# Altium schematic symbol library SWLiB.SchLib: 128 symbols
Pins are listed as number, name and electrical type; pins without a type are passive.

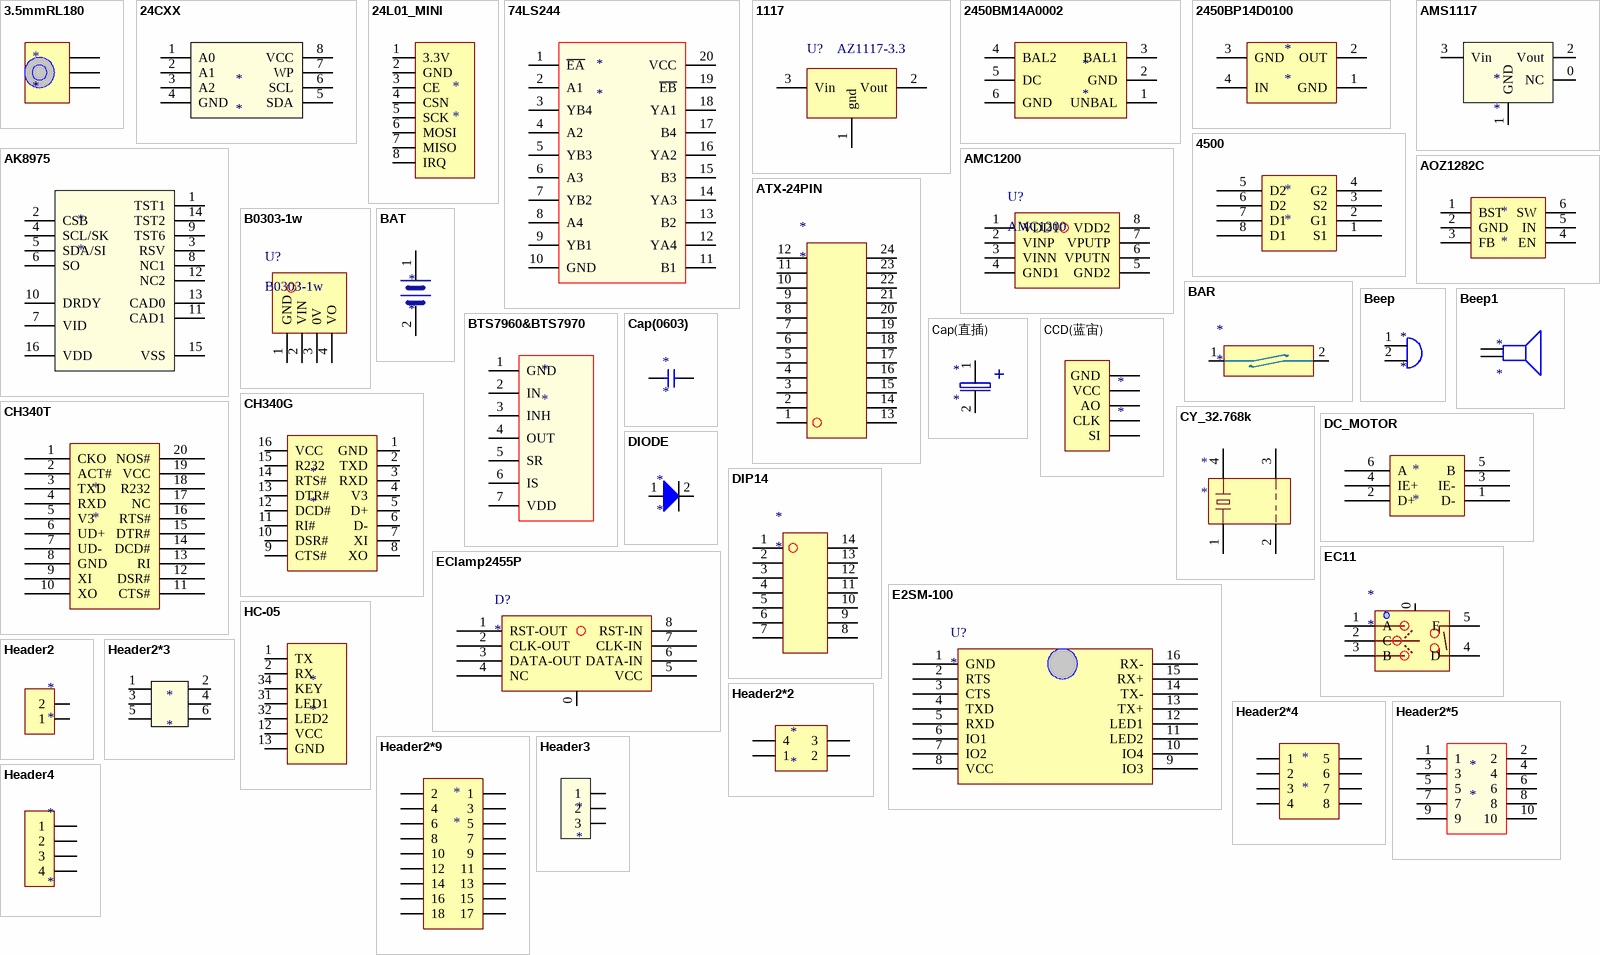
[diagram p0: symbols 3.5mmRL180 to Header4]

## 3.5mmRL180
designator *
footprint DHH3.5mm
pins: 2 IN16, 3 IN17, 4 IN18

## 24CXX
designator *
footprint SOP_8
pins: 1 A0, 2 A1, 3 A2, 4 GND, 5 SDA, 6 SCL, 7 WP, 8 VCC

## 24L01_MINI
designator *
footprint MINI_NRF24L01_ (1.27mm)
pins: 1 3.3V, 2 GND, 3 CE, 4 CSN, 5 SCK, 6 MOSI, 7 MISO, 8 IRQ

## 74LS244
designator *
footprint SOP20 (窄的)
pins: 1 ~{EA}, 2 A1, 3 YB4, 4 A2, 5 YB3, 6 A3, 7 YB2, 8 A4, 9 YB1, 10 GND, 11 B1, 12 YA4, 13 B2, 14 YA3, 15 B3, 16 YA2, 17 B4, 18 YA1, 19 ~{EB}, 20 VCC

## 1117
designator U?, comment AZ1117-3.3
footprint sot89l (SOT89, 3-Leads, Body 4.5x2.4 mm, Pitch 1.5mm, Lead Span 4.1mm, IPC)
footprint SOT223
pins: 1 gnd, 2 Vout, 3 Vin

## 2450BM14A0002
designator *
footprint 2450BM14A0002
pins: 1 UNBAL, 2 GND, 3 BAL1, 4 BAL2, 5 DC, 6 GND

## 2450BP14D0100
designator *
footprint 2450BP14D0100
pins: 1 GND, 2 OUT, 3 GND, 4 IN

## 4500
designator *
pins: 1 S1, 2 G1, 3 S2, 4 G2, 5 D2, 6 D2, 7 D1, 8 D1

## AK8975
designator *
footprint AK8975 (QFN, 16-Leads, Body 4.00x4.00mm, Pitch 0.65mm, Thermal Pad 2.25x2.25mm, IPC Medium Density)
pins: 1 TST1, 2 CSB, 3 RSV, 4 SCL/SK, 5 SDA/SI, 6 SO, 7 VID, 8 NC1, 9 TST6, 10 DRDY, 11 CAD1, 12 NC2, 13 CAD0, 14 TST2, 15 VSS, 16 VDD

## AMC1200
designator U?
footprint SOP_8
pins: 1 VDD1, 2 VINP, 3 VINN, 4 GND1, 5 GND2, 6 VPUTN, 7 VPUTP, 8 VDD2

## AMS1117
designator *
footprint SOT223
pins: 0 NC, 1 GND, 2 Vout, 3 Vin

## AOZ1282C
designator *
footprint SOT23-6L (3x1.6x1.1mm(长宽高))
pins: 1 BST, 2 GND, 3 FB, 4 EN, 5 IN, 6 SW

## ATX-24PIN
designator *
pins: 1, 2, 3, 4, 5, 6, 7, 8, 9, 10, 11, 12, 13, 14, 15, 16, 17, 18, 19, 20, 21, 22, 23, 24

## B0303-1w
designator U?
footprint B0303-0.5W
pins: 1 GND, 2 VIN, 3 0V, 4 VO

## BAR
designator *
footprint Model Name (Footprint not found)
pins: 1, 2

## BAT
designator *
footprint BATM
pins: 1, 2

## Beep
designator *
footprint MR5020
pins: 1, 2

## Beep1
designator *
footprint Beep1
pins: 1, 2

## BTS7960&BTS7970
designator *
footprint BTS7960
pins: 1 GND, 2 IN, 3 INH, 4 OUT, 5 SR, 6 IS, 7 VDD

## Cap(0603)
designator *
footprint 0603C
pins: 1, 2

## Cap(直插)
designator *
footprint CAP(大)
pins: 1, 2

## CCD(蓝宙)
designator *
footprint Header5-2.54mm
pins: 1 GND, 2 VCC, 3 AO, 4 CLK, 5 SI

## CH340G
designator *
footprint SOP16
pins: 1 GND, 2 TXD, 3 RXD, 4 V3, 5 D+, 6 D-, 7 XI, 8 XO, 9 CTS#, 10 DSR#, 11 RI#, 12 DCD#, 13 DTR#, 14 RTS#, 15 R232, 16 VCC

## CH340T
designator *
pins: 1 CKO, 2 ACT#, 3 TXD, 4 RXD, 5 V3, 6 UD+, 7 UD-, 8 GND, 9 XI, 10 XO, 11 CTS#, 12 DSR#, 13 RI, 14 DCD#, 15 DTR#, 16 RTS#, 17 NC, 18 R232, 19 VCC, 20 NOS#

## CY_32.768k
designator *
footprint MC-306
pins: 1, 2, 3, 4

## DC_MOTOR
designator *
pins: 1 D-, 2 D+, 3 IE-, 4 IE+, 5 B, 6 A

## DIODE
designator *
footprint Mini_melf
pins: 1, 2

## DIP14
designator *
footprint KF141R-2.54x7
pins: 1 IN3, 2 IN4, 3 IN5, 4 IN6, 5 IN7, 6 IN8, 7 IN9, 8 IN10, 9 IN11, 10 IN12, 11 IN13, 12 IN14, 13 IN13, 14 IN14

## E2SM-100
designator U?
pins: 1 GND, 2 RTS, 3 CTS, 4 TXD, 5 RXD, 6 IO1, 7 IO2, 8 VCC, 9 IO3, 10 IO4, 11 LED2, 12 LED1, 13 TX+, 14 TX-, 15 RX+, 16 RX-

## EC11
designator *
pins: 0, 1 A, 2 C, 3 B, 4 D, 5 E

## EClamp2455P
designator D?
footprint SLP2116P8 (QFN, 8-Leads, Body 1.8x2.2mm (max), Pitch 0.50mm, IPC Medium Density)
pins: 0 GND, 1 RST-OUT, 2 CLK-OUT, 3 DATA-OUT, 4 NC, 5 VCC, 6 DATA-IN, 7 CLK-IN, 8 RST-IN

## HC-05
designator *
footprint HC-05
pins: 1 TX, 2 RX, 12 VCC, 13 GND, 31 LED1, 32 LED2, 34 KEY

## Header2
designator *
footprint Header2 (2.54mm)
footprint T头母
footprint Header2_5.08mm
pins: 1, 2

## Header2*2
designator *
footprint Heaer2*2 (100mil)
pins: 1, 2, 3, 4

## Header2*3
designator *
footprint Heaer2*3
pins: 1, 2, 3, 4, 5, 6

## Header2*4
designator *
footprint Header 2*4 (2.54mm)
pins: 1, 2, 3, 4, 5, 6, 7, 8

## Header2*5
designator *
footprint Header2*5
pins: 1, 2, 3, 4, 5, 6, 7, 8, 9, 10

## Header2*9
designator *
footprint Header2*9 (2.54 ov7670,ov2460)
pins: 1, 2, 3, 4, 5, 6, 7, 8, 9, 10, 11, 12, 13, 14, 15, 16, 17, 18

## Header3
designator *
footprint Header3 (2.54mm)
pins: 1, 2, 3

## Header4
designator *
footprint Header4 (2.54mm)
pins: 1, 2, 3, 4

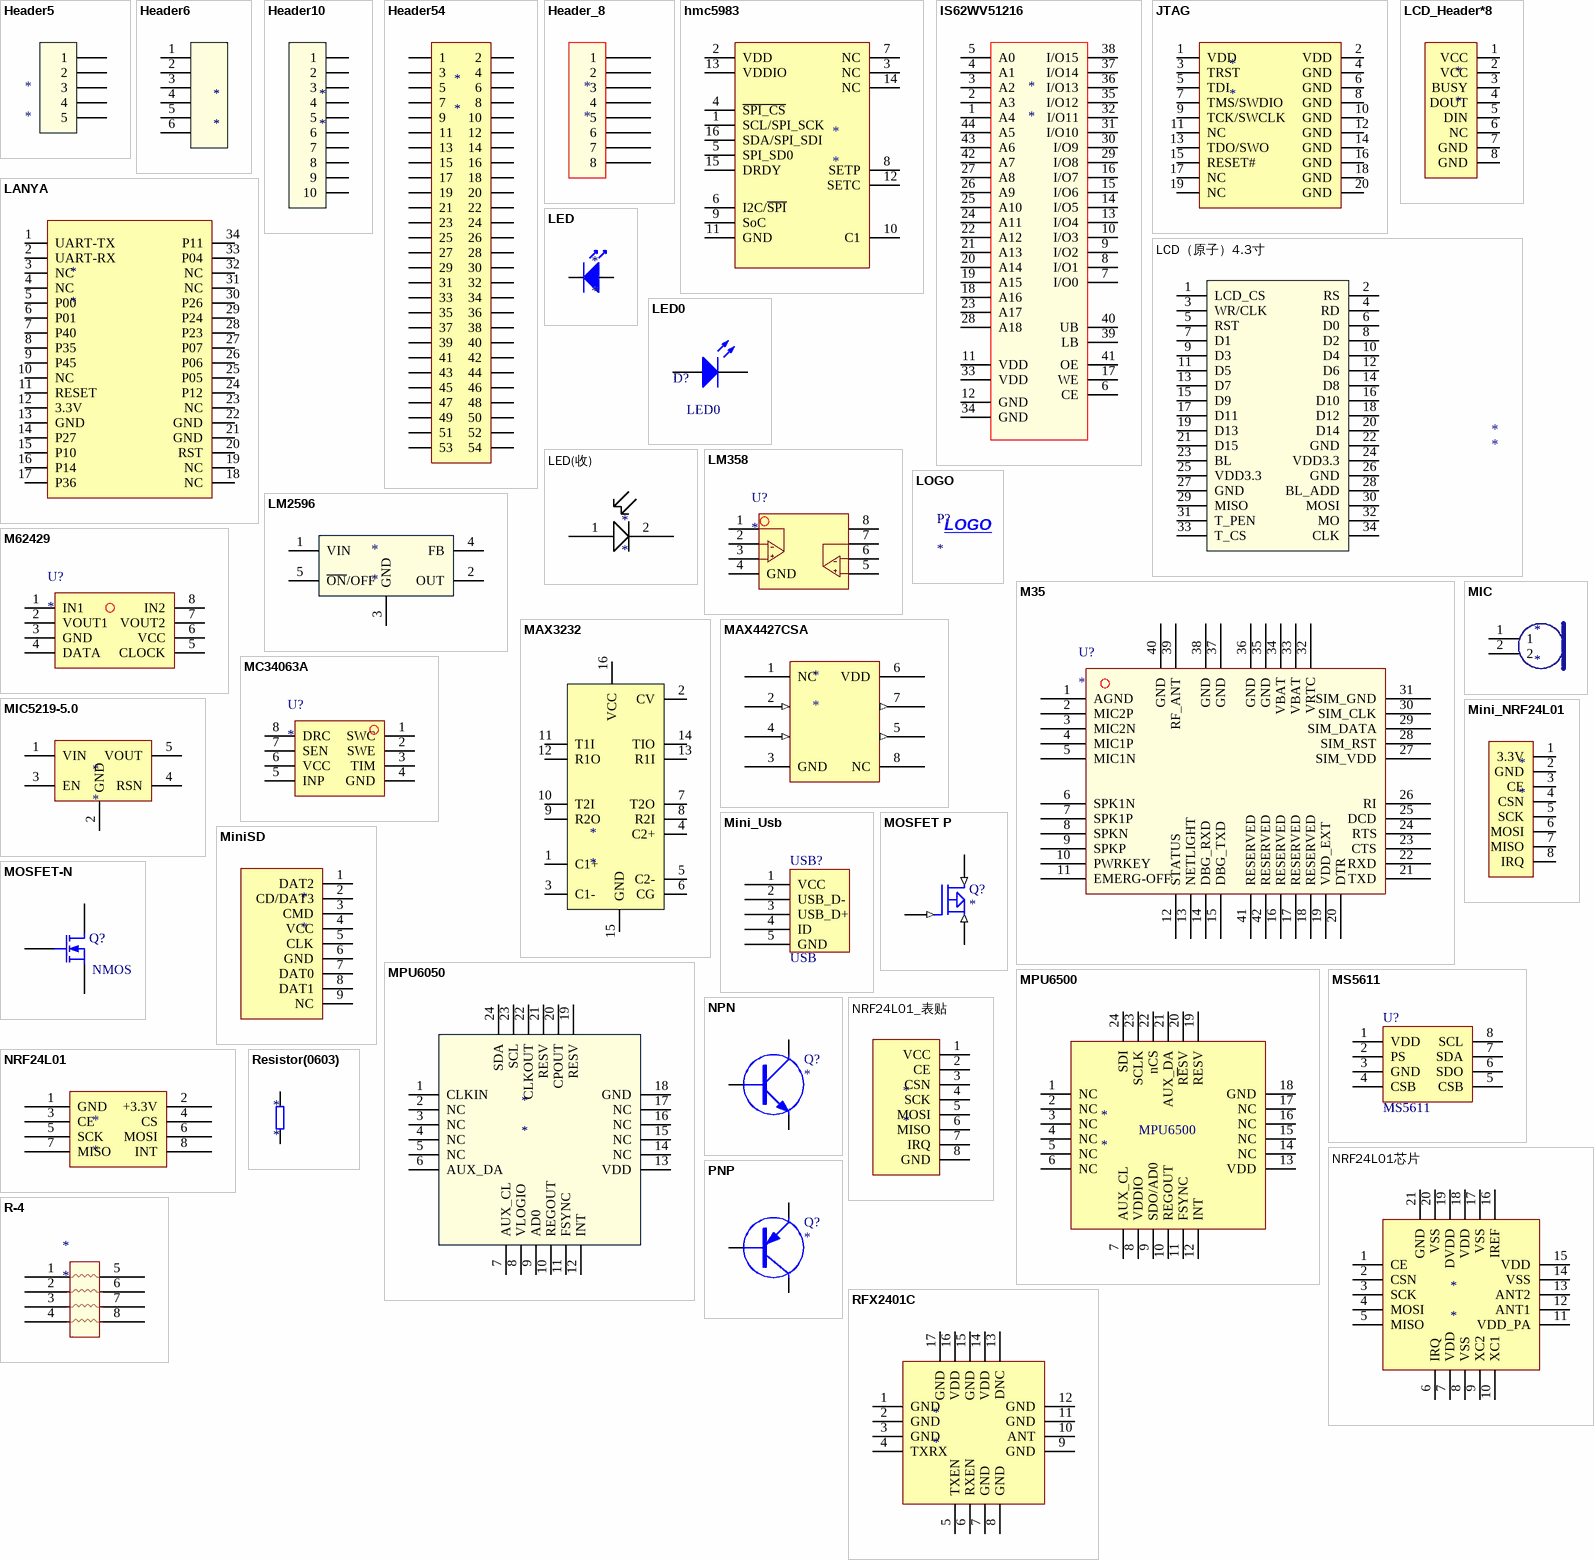
[diagram p1: symbols Header5 to RFX2401C]

## Header5
designator *
footprint Header5
pins: 1, 2, 3, 4, 5

## Header6
designator *
footprint Header 6 (2.0mm)
footprint Header6_2.54mm
pins: 1, 2, 3, 4, 5, 6

## Header10
designator *
footprint MX 1.25-SMD-10P_V (10脚，长：14.5mm，宽：4.2mm，高：3.4mm)
pins: 1, 2, 3, 4, 5, 6, 7, 8, 9, 10

## Header54
designator *
footprint Header54 (2.54mm)
pins: 1, 2, 3, 4, 5, 6, 7, 8, 9, 10, 11, 12, 13, 14, 15, 16, 17, 18, 19, 20, 21, 22, 23, 24, 25, 26, 27, 28, 29, 30, 31, 32, 33, 34, 35, 36, 37, 38, 39, 40, 41, 42, 43, 44, 45, 46, 47, 48, 49, 50, 51, 52, 53, 54

## Header_8
designator *
footprint Header8 (2.54mm)
pins: 1, 2, 3, 4, 5, 6, 7, 8

## hmc5983
designator *
footprint QFN_16
pins: 1 SCL/SPI_SCK, 2 VDD, 3 NC, 4 ~{SPI_CS}, 5 SPI_SD0, 6 I2C/~{SPI}, 7 NC, 8 SETP, 9 SoC, 10 C1, 11 GND, 12 SETC, 13 VDDIO, 14 NC, 15 DRDY, 16 SDA/SPI_SDI

## IS62WV51216
designator *
footprint TOSP44
pins: 1 A4, 2 A3, 3 A2, 4 A1, 5 A0, 6 CE, 7 I/O0, 8 I/O1, 9 I/O2, 10 I/O3, 11 VDD, 12 GND, 13 I/O4, 14 I/O5, 15 I/O6, 16 I/O7, 17 WE, 18 A16, 19 A15, 20 A14, 21 A13, 22 A12, 23 A17, 24 A11, 25 A10, 26 A9, 27 A8, 28 A18, 29 I/O8, 30 I/O9, 31 I/O10, 32 I/O11, 33 VDD, 34 GND, 35 I/O12, 36 I/O13, 37 I/O14, 38 I/O15, 39 LB, 40 UB, 41 OE, 42 A7, 43 A6, 44 A5

## JTAG
designator *
footprint Header20-2.54 (JATG)
pins: 1 VDD, 2 VDD, 3 TRST, 4 GND, 5 TDI, 6 GND, 7 TMS/SWDIO, 8 GND, 9 TCK/SWCLK, 10 GND, 11 NC, 12 GND, 13 TDO/SWO, 14 GND, 15 RESET#, 16 GND, 17 NC, 18 GND, 19 NC, 20 GND

## LANYA
designator *
pins: 1 UART-TX, 2 UART-RX, 3 NC, 4 NC, 5 P00, 6 P01, 7 P40, 8 P35, 9 P45, 10 NC, 11 RESET, 12 3.3V, 13 GND, 14 P27, 15 P10, 16 P14, 17 P36, 18 NC, 19 NC, 20 RST, 21 GND, 22 GND, 23 NC, 24 P12, 25 P05, 26 P06, 27 P07, 28 P23, 29 P24, 30 P26, 31 NC, 32 NC, 33 P04, 34 P11

## LCD_Header*8
designator *
footprint XH 2.54 8pin
pins: 1 VCC, 2 VCC, 3 BUSY, 4 DOUT, 5 DIN, 6 NC, 7 GND, 8 GND

## LCD（原子）4.3寸
designator *
footprint LCD_4.3 (原子液晶屏)
pins: 1 LCD_CS, 2 RS, 3 WR/CLK, 4 RD, 5 RST, 6 D0, 7 D1, 8 D2, 9 D3, 10 D4, 11 D5, 12 D6, 13 D7, 14 D8, 15 D9, 16 D10, 17 D11, 18 D12, 19 D13, 20 D14, 21 D15, 22 GND, 23 BL, 24 VDD3.3, 25 VDD3.3, 26 GND, 27 GND, 28 BL_ADD, 29 MISO, 30 MOSI, 31 T_PEN, 32 MO, 33 T_CS, 34 CLK

## LED
designator *
footprint 0603D
pins: 1, 2

## LED0
designator D?
Typical INFRARED GaAs LED; Published: 8-Jun-2000; LatestRevisionDate: 08-Jul-2005; LatestRevisionNote: Mech Layer 1 removed.; PackageReference: LED-0; Publisher: Altium Limited; PackageDescription: LED; 2 Leads
footprint 0603_LED
pins: 1 A, 2 K

## LED(收)
designator *
pins: 1, 2

## LM358
designator U?
footprint Model Name (Footprint not found)
pins: 1 out, 2 out, 3 out, 4 GND, 5 out, 6 out, 7 out, 8 VCC

## LM2596
designator *
footprint TO-265-5
pins: 1 VIN, 2 OUT, 3 GND, 4 FB, 5 ~{ON}/OFF

## LOGO
designator P?

## M35
designator U?
footprint M35-PCB
pins: 1 AGND, 2 MIC2P, 3 MIC2N, 4 MIC1P, 5 MIC1N, 6 SPK1N, 7 SPK1P, 8 SPKN, 9 SPKP, 10 PWRKEY, 11 EMERG-OFF, 12 STATUS, 13 NETLIGHT, 14 DBG_RXD, 15 DBG_TXD, 16 RESERVED, 17 RESERVED, 18 RESERVED, 19 VDD_EXT, 20 DTR, 21 TXD, 22 RXD, 23 CTS, 24 RTS, 25 DCD, 26 RI, 27 SIM_VDD, 28 SIM_RST, 29 SIM_DATA, 30 SIM_CLK, 31 SIM_GND, 32 VRTC, 33 VBAT, 34 VBAT, 35 GND, 36 GND, 37 GND, 38 GND, 39 RF_ANT, 40 GND, 41 RESERVED, 42 RESERVED

## M62429
designator U?
footprint SOP8 (Footprint not found)
pins: 1 IN1, 2 VOUT1, 3 GND, 4 DATA, 5 CLOCK, 6 VCC, 7 VOUT2, 8 IN2

## MAX3232
designator *
footprint SOP16
pins: 1 C1+, 2 CV, 3 C1-, 4 C2+, 5 C2-, 6 CG, 7 T2O, 8 R2I, 9 R2O, 10 T2I, 11 T1I, 12 R1O, 13 R1I, 14 TIO, 15 GND, 16 VCC

## MAX4427CSA
designator *
pins: 1 NC, 2 (in), 3 GND, 4 (in), 5 (out), 6 VDD, 7 (out), 8 NC

## MC34063A
designator U?
footprint Model Name (Footprint not found)
pins: 1 SWC, 2 SWE, 3 TIM, 4 GND, 5 INP, 6 VCC, 7 SEN, 8 DRC

## MIC
designator *
footprint MIC (9*7)
pins: 1, 2

## MIC5219-5.0
designator *
footprint sot23-5
pins: 1 VIN, 2 GND, 3 EN, 4 RSN, 5 VOUT

## Mini_NRF24L01
designator *
footprint mini_NRF2401 (1.27mm间距)
pins: 1 3.3V, 2 GND, 3 CE, 4 CSN, 5 SCK, 6 MOSI, 7 MISO, 8 IRQ

## Mini_Usb
designator USB?, comment USB
footprint USB_Micro
pins: 1 VCC, 2 USB_D-, 3 USB_D+, 4 ID, 5 GND

## MiniSD
designator *
footprint TF2
pins: 1 DAT2, 2 CD/DAT3, 3 CMD, 4 VCC, 5 CLK, 6 GND, 7 DAT0, 8 DAT1, 9 NC

## MOSFET P
designator Q?
pins: 1 G (in), 2 D (in), 3 S (in)

## MOSFET-N
designator Q?, comment NMOS
N-Channel MOSFET; Published: 8-Jun-2000; LatestRevisionDate: 17-Jul-2002; LatestRevisionNote: Re-released for DXP Platform.; PackageVersion: 1995/1996; PackageReference: E3; Publisher: Altium Limited
simulation model NMOS (MOSFET-N)
footprint SOT-23 (SOT-23; 3 Leads; Body 3.1 x 2.5 mm, inc. leads (LxW max))
pins: 1 G, 2 S, 3 D

## MPU6050
designator *
footprint MPU_6050 (QFN, 24-Leads, Body 4.00x4.00mm, Pitch 0.50mm, Thermal Pad 2.60x2.70mm, IPC Low Density)
pins: 1 CLKIN, 2 NC, 3 NC, 4 NC, 5 NC, 6 AUX_DA, 7 AUX_CL, 8 VLOGIO, 9 AD0, 10 REGOUT, 11 FSYNC, 12 INT, 13 VDD, 14 NC, 15 NC, 16 NC, 17 NC, 18 GND, 19 RESV, 20 CPOUT, 21 RESV, 22 CLKOUT, 23 SCL, 24 SDA

## MPU6500
designator *
footprint QFN_24
pins: 1 NC, 2 NC, 3 NC, 4 NC, 5 NC, 6 NC, 7 AUX_CL, 8 VDDIO, 9 SDO/AD0, 10 REGOUT, 11 FSYNC, 12 INT, 13 VDD, 14 NC, 15 NC, 16 NC, 17 NC, 18 GND, 19 RESV, 20 R~{E}SV, 21 AUX_DA, 22 nCS, 23 SCLK, 24 SDI

## MS5611
designator U?
footprint QFN_8
pins: 1 VDD, 2 PS, 3 GND, 4 CSB, 5 CSB, 6 SDO, 7 SDA, 8 SCL

## NPN
designator Q?
NPN Transistor
footprint SOT-23
pins: 1 E, 2 B, 3 C

## NRF24L01
designator *
footprint NRF24L01 (2.54mm)
pins: 1 GND, 2 +3.3V, 3 CE, 4 CS, 5 SCK, 6 MOSI, 7 MISO, 8 INT

## NRF24L01_表贴
designator *
footprint Nrf24l01 - duplicate (表贴)
pins: 1 VCC, 2 CE, 3 CSN, 4 SCK, 5 MOSI, 6 MISO, 7 IRQ, 8 GND

## NRF24L01芯片
designator *
footprint QFN20
pins: 1 CE, 2 CSN, 3 SCK, 4 MOSI, 5 MISO, 6 IRQ, 7 VDD, 8 VSS, 9 XC2, 10 XC1, 11 VDD_PA, 12 ANT1, 13 ANT2, 14 VSS, 15 VDD, 16 IREF, 17 VSS, 18 VDD, 19 DVDD, 20 VSS, 21 GND

## PNP
designator Q?
NPN Transistor
footprint SOT-23
pins: 1 E, 2 B, 3 C

## R-4
designator *
footprint 8P4R (0603)
pins: 1, 2, 3, 4, 5, 6, 7, 8

## Resistor(0603)
designator *
footprint 0603R
pins: 1, 2

## RFX2401C
designator *
footprint QFN_16
pins: 1 GND, 2 GND, 3 GND, 4 TXRX, 5 TXEN, 6 RXEN, 7 GND, 8 GND, 9 GND, 10 ANT, 11 GND, 12 GND, 13 DNC, 14 VDD, 15 GND, 16 VDD, 17 GND

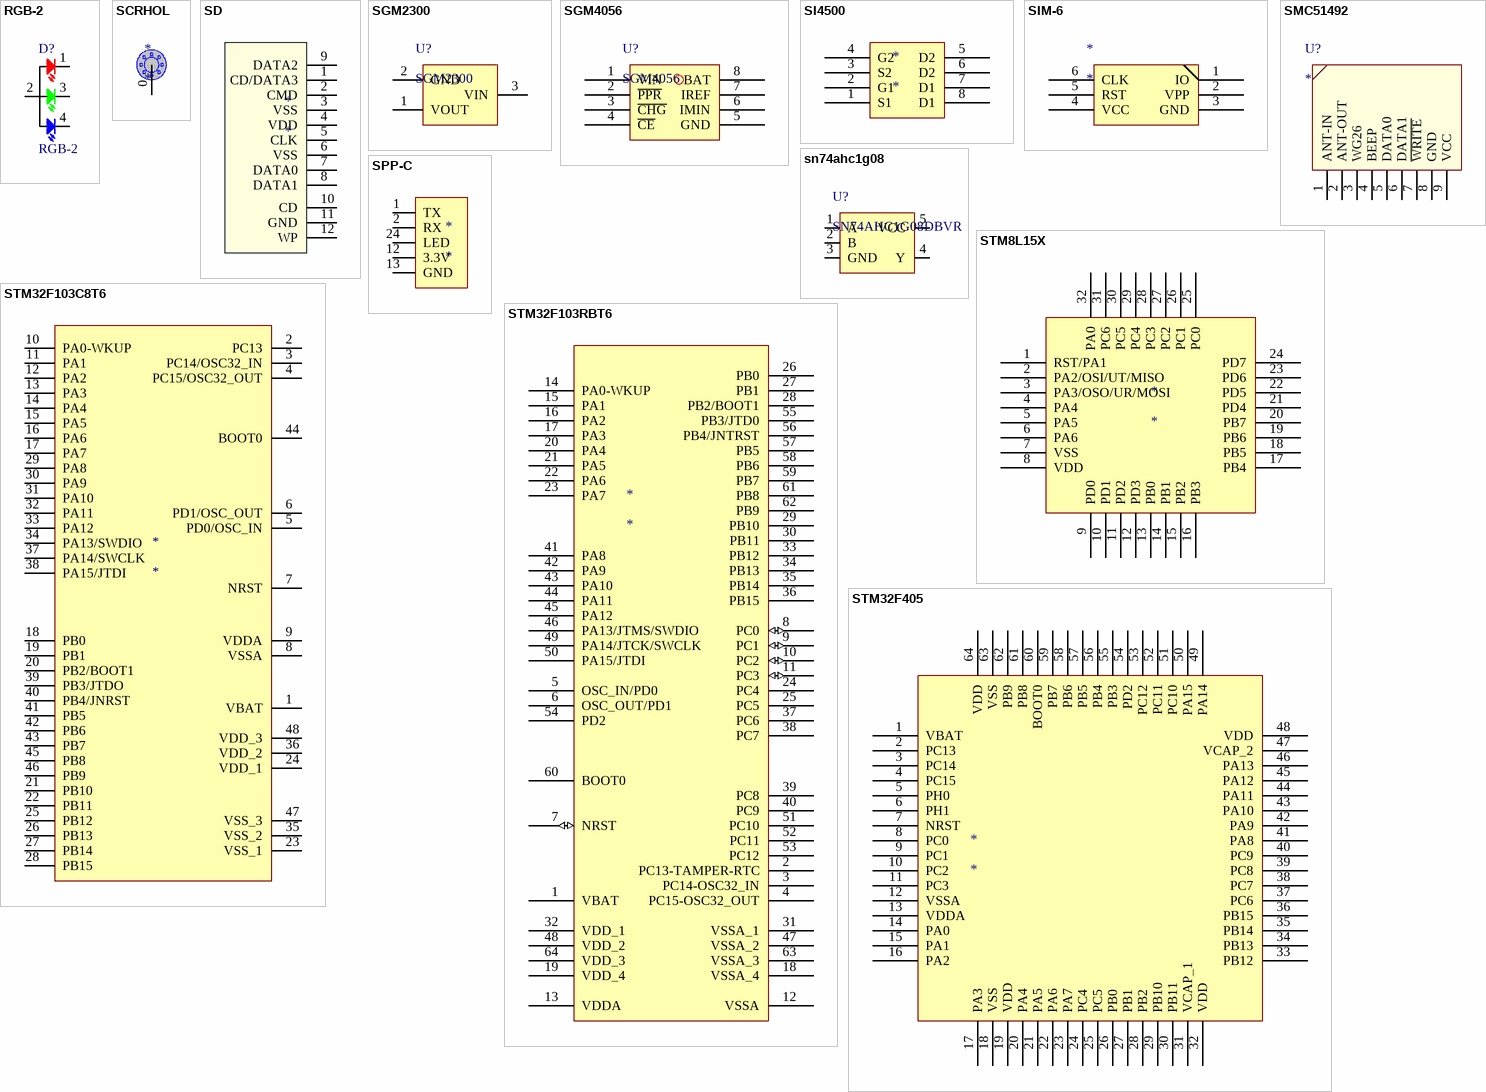
[diagram p2: symbols RGB-2 to STM32F405]

## RGB-2
designator D?
footprint RGB-2
pins: 1 R, 2, 3 G, 4 B

## SCRHOL
designator *
footprint SCREW
pins: 0

## SD
designator *
pins: 1 CD/DATA3, 2 CMD, 3 VSS, 4 VDD, 5 CLK, 6 VSS, 7 DATA0, 8 DATA1, 9 DATA2, 10 CD, 11 GND, 12 WP

## SGM2300
designator U?
footprint SOT_23
pins: 1 VOUT, 2 GND, 3 VIN

## SGM4056
designator U?
footprint SOP_8
pins: 1 VIN, 2 ~{PPR}, 3 ~{CHG}, 4 ~{CE}, 5 GND, 6 IMIN, 7 IREF, 8 BAT

## SI4500
designator *
pins: 1 S1, 2 G1, 3 S2, 4 G2, 5 D2, 6 D2, 7 D1, 8 D1

## SIM-6
designator *
footprint SIM-chou
pins: 1 IO, 2 VPP, 3 GND, 4 VCC, 5 RST, 6 CLK

## SMC51492
designator U?
pins: 1 ANT-IN, 2 ANT-OUT, 3 WG26, 4 BEEP, 5 DATA0, 6 DATA1, 7 ~{WRITE}, 8 GND, 9 VCC

## sn74ahc1g08
designator U?, comment SN74AHC1G08DBVR
footprint sot23-5
pins: 1 A, 2 B, 3 GND, 4 Y, 5 VCC

## SPP-C
designator *
footprint HC-05
pins: 1 TX, 2 RX, 12 3.3V, 13 GND, 24 LED

## STM8L15X
designator *
footprint LQFP32
pins: 1 RST/PA1, 2 PA2/OSI/UT/MISO, 3 PA3/OSO/UR/MOSI, 4 PA4, 5 PA5, 6 PA6, 7 VSS, 8 VDD, 9 PD0, 10 PD1, 11 PD2, 12 PD3, 13 PB0, 14 PB1, 15 PB2, 16 PB3, 17 PB4, 18 PB5, 19 PB6, 20 PB7, 21 PD4, 22 PD5, 23 PD6, 24 PD7, 25 PC0, 26 PC1, 27 PC2, 28 PC3, 29 PC4, 30 PC5, 31 PC6, 32 PA0

## STM32F103C8T6
designator *
footprint LQFP-48
pins: 1 VBAT, 2 PC13, 3 PC14/OSC32_IN, 4 PC15/OSC32_OUT, 5 PD0/OSC_IN, 6 PD1/OSC_OUT, 7 NRST, 8 VSSA, 9 VDDA, 10 PA0-WKUP, 11 PA1, 12 PA2, 13 PA3, 14 PA4, 15 PA5, 16 PA6, 17 PA7, 18 PB0, 19 PB1, 20 PB2/BOOT1, 21 PB10, 22 PB11, 23 VSS_1, 24 VDD_1, 25 PB12, 26 PB13, 27 PB14, 28 PB15, 29 PA8, 30 PA9, 31 PA10, 32 PA11, 33 PA12, 34 PA13/SWDIO, 35 VSS_2, 36 VDD_2, 37 PA14/SWCLK, 38 PA15/JTDI, 39 PB3/JTDO, 40 PB4/JNRST, 41 PB5, 42 PB6, 43 PB7, 44 BOOT0, 45 PB8, 46 PB9, 47 VSS_3, 48 VDD_3

## STM32F103RBT6
designator *
footprint LQFP-64
pins: 1 VBAT, 2 PC13-TAMPER-RTC, 3 PC14-OSC32_IN, 4 PC15-OSC32_OUT, 5 OSC_IN/PD0, 6 OSC_OUT/PD1, 7 NRST (io), 8 PC0 (io), 9 PC1 (io), 10 PC2 (io), 11 PC3 (io), 12 VSSA, 13 VDDA, 14 PA0-WKUP, 15 PA1, 16 PA2, 17 PA3, 18 VSSA_4, 19 VDD_4, 20 PA4, 21 PA5, 22 PA6, 23 PA7, 24 PC4, 25 PC5, 26 PB0, 27 PB1, 28 PB2/BOOT1, 29 PB10, 30 PB11, 31 VSSA_1, 32 VDD_1, 33 PB12, 34 PB13, 35 PB14, 36 PB15, 37 PC6, 38 PC7, 39 PC8, 40 PC9, 41 PA8, 42 PA9, 43 PA10, 44 PA11, 45 PA12, 46 PA13/JTMS/SWDIO, 47 VSSA_2, 48 VDD_2, 49 PA14/JTCK/SWCLK, 50 PA15/JTDI, 51 PC10, 52 PC11, 53 PC12, 54 PD2, 55 PB3/JTD0, 56 PB4/JNTRST, 57 PB5, 58 PB6, 59 PB7, 60 BOOT0, 61 PB8, 62 PB9, 63 VSSA_3, 64 VDD_3

## STM32F405
designator *
footprint LQFP-64
pins: 1 VBAT, 2 PC13, 3 PC14, 4 PC15, 5 PH0, 6 PH1, 7 NRST, 8 PC0, 9 PC1, 10 PC2, 11 PC3, 12 VSSA, 13 VDDA, 14 PA0, 15 PA1, 16 PA2, 17 PA3, 18 VSS, 19 VDD, 20 PA4, 21 PA5, 22 PA6, 23 PA7, 24 PC4, 25 PC5, 26 PB0, 27 PB1, 28 PB2, 29 PB10, 30 PB11, 31 VCAP_1, 32 VDD, 33 PB12, 34 PB13, 35 PB14, 36 PB15, 37 PC6, 38 PC7, 39 PC8, 40 PC9, 41 PA8, 42 PA9, 43 PA10, 44 PA11, 45 PA12, 46 PA13, 47 VCAP_2, 48 VDD, 49 PA14, 50 PA15, 51 PC10, 52 PC11, 53 PC12, 54 PD2, 55 PB3, 56 PB4, 57 PB5, 58 PB6, 59 PB7, 60 BOOT0, 61 PB8, 62 PB9, 63 VSS, 64 VDD

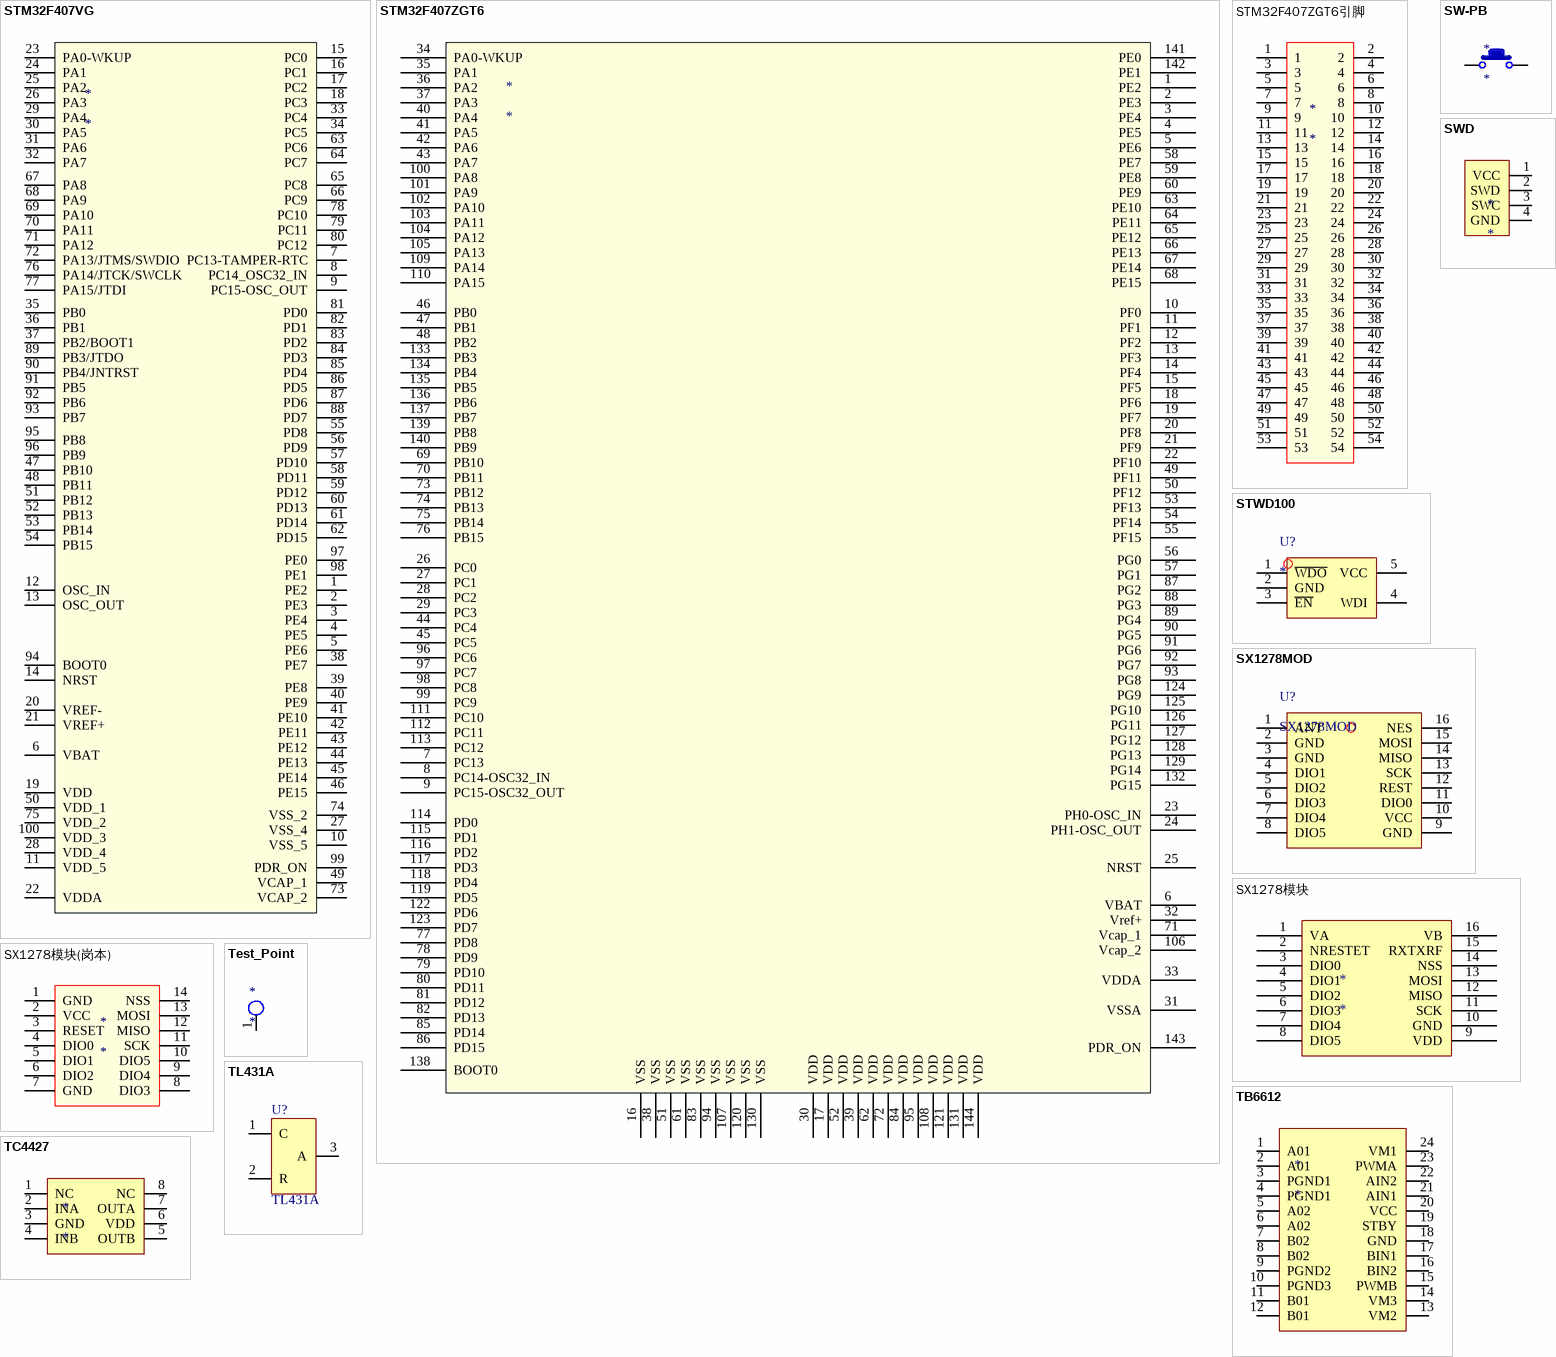
[diagram p3: symbols STM32F407VG to TL431A]

## STM32F407VG
designator *
footprint LQFP100_1
pins: 1 PE2, 2 PE3, 3 PE4, 4 PE5, 5 PE6, 6 VBAT, 7 PC13-TAMPER-RTC, 8 PC14_OSC32_IN, 9 PC15-OSC_OUT, 10 VSS_5, 11 VDD_5, 12 OSC_IN, 13 OSC_OUT, 14 NRST, 15 PC0, 16 PC1, 17 PC2, 18 PC3, 19 VDD, 20 VREF-, 21 VREF+, 22 VDDA, 23 PA0-WKUP, 24 PA1, 25 PA2, 26 PA3, 27 VSS_4, 28 VDD_4, 29 PA4, 30 PA5, 31 PA6, 32 PA7, 33 PC4, 34 PC5, 35 PB0, 36 PB1, 37 PB2/BOOT1, 38 PE7, 39 PE8, 40 PE9, 41 PE10, 42 PE11, 43 PE12, 44 PE13, 45 PE14, 46 PE15, 47 PB10, 48 PB11, 49 VCAP_1, 50 VDD_1, 51 PB12, 52 PB13, 53 PB14, 54 PB15, 55 PD8, 56 PD9, 57 PD10, 58 PD11, 59 PD12, 60 PD13, 61 PD14, 62 PD15, 63 PC6, 64 PC7, 65 PC8, 66 PC9, 67 PA8, 68 PA9, 69 PA10, 70 PA11, 71 PA12, 72 PA13/JTMS/SWDIO, 73 VCAP_2, 74 VSS_2, 75 VDD_2, 76 PA14/JTCK/SWCLK, 77 PA15/JTDI, 78 PC10, 79 PC11, 80 PC12, 81 PD0, 82 PD1, 83 PD2, 84 PD3, 85 PD4, 86 PD5, 87 PD6, 88 PD7, 89 PB3/JTDO, 90 PB4/JNTRST, 91 PB5, 92 PB6, 93 PB7, 94 BOOT0, 95 PB8, 96 PB9, 97 PE0, 98 PE1, 99 PDR_ON, 100 VDD_3

## STM32F407ZGT6
designator *
footprint LQFP-144_L (TSQFP, 144-Leads, Body 20.00x20.00mm, Pitch 0.50mm, IPC Low Density)
pins: 1 PE2, 2 PE3, 3 PE4, 4 PE5, 5 PE6, 6 VBAT, 7 PC13, 8 PC14-OSC32_IN, 9 PC15-OSC32_OUT, 10 PF0, 11 PF1, 12 PF2, 13 PF3, 14 PF4, 15 PF5, 16 VSS, 17 VDD, 18 PF6, 19 PF7, 20 PF8, 21 PF9, 22 PF10, 23 PH0-OSC_IN, 24 PH1-OSC_OUT, 25 NRST, 26 PC0, 27 PC1, 28 PC2, 29 PC3, 30 VDD, 31 VSSA, 32 Vref+, 33 VDDA, 34 PA0-WKUP, 35 PA1, 36 PA2, 37 PA3, 38 VSS, 39 VDD, 40 PA4, 41 PA5, 42 PA6, 43 PA7, 44 PC4, 45 PC5, 46 PB0, 47 PB1, 48 PB2, 49 PF11, 50 PF12, 51 VSS, 52 VDD, 53 PF13, 54 PF14, 55 PF15, 56 PG0, 57 PG1, 58 PE7, 59 PE8, 60 PE9, 61 VSS, 62 VDD, 63 PE10, 64 PE11, 65 PE12, 66 PE13, 67 PE14, 68 PE15, 69 PB10, 70 PB11, 71 Vcap_1, 72 VDD, 73 PB12, 74 PB13, 75 PB14, 76 PB15, 77 PD8, 78 PD9, 79 PD10, 80 PD11, 81 PD12, 82 PD13, 83 VSS, 84 VDD, 85 PD14, 86 PD15, 87 PG2, 88 PG3, 89 PG4, 90 PG5, 91 PG6, 92 PG7, 93 PG8, 94 VSS, 95 VDD, 96 PC6, 97 PC7, 98 PC8, 99 PC9, 100 PA8, 101 PA9, 102 PA10, 103 PA11, 104 PA12, 105 PA13, 106 Vcap_2, 107 VSS, 108 VDD, 109 PA14, 110 PA15, 111 PC10, 112 PC11, 113 PC12, 114 PD0, 115 PD1, 116 PD2, 117 PD3, 118 PD4, 119 PD5, 120 VSS, 121 VDD, 122 PD6, 123 PD7, 124 PG9, 125 PG10, 126 PG11, 127 PG12, 128 PG13, 129 PG14, 130 VSS, 131 VDD, 132 PG15, 133 PB3, 134 PB4, 135 PB5, 136 PB6, 137 PB7, 138 BOOT0, 139 PB8, 140 PB9, 141 PE0, 142 PE1, 143 PDR_ON, 144 VDD

## STM32F407ZGT6引脚
designator *
footprint STM32F407ZGT6引脚
pins: 1, 2, 3, 4, 5, 6, 7, 8, 9, 10, 11, 12, 13, 14, 15, 16, 17, 18, 19, 20, 21, 22, 23, 24, 25, 26, 27, 28, 29, 30, 31, 32, 33, 34, 35, 36, 37, 38, 39, 40, 41, 42, 43, 44, 45, 46, 47, 48, 49, 50, 51, 52, 53, 54

## STWD100
designator U?
pins: 1 ~{WDO}, 2 GND, 3 ~{EN}, 4 WDI, 5 VCC

## SW-PB
designator *
footprint Switch (贴片按键)
pins: 1, 2

## SWD
designator *
footprint Header4 (2.54mm)
pins: 1 VCC, 2 SWD, 3 SWC, 4 GND

## SX1278MOD
designator U?
footprint SX1278MOD
pins: 1 ANT, 2 GND, 3 GND, 4 DIO1, 5 DIO2, 6 DIO3, 7 DIO4, 8 DIO5, 9 GND, 10 VCC, 11 DIO0, 12 REST, 13 SCK, 14 MISO, 15 MOSI, 16 NES

## SX1278模块
designator *
pins: 1 VA, 2 NRESTET, 3 DIO0, 4 DIO1, 5 DIO2, 6 DIO3, 7 DIO4, 8 DIO5, 9 VDD, 10 GND, 11 SCK, 12 MISO, 13 MOSI, 14 NSS, 15 RXTXRF, 16 VB

## SX1278模块(岗本)
designator *
footprint SX1278模块（岗本）
pins: 1 GND, 2 VCC, 3 RESET, 4 DIO0, 5 DIO1, 6 DIO2, 7 GND, 8 DIO3, 9 DIO4, 10 DIO5, 11 SCK, 12 MISO, 13 MOSI, 14 NSS

## TB6612
designator *
footprint SSOP-24
pins: 1 A01, 2 A01, 3 PGND1, 4 PGND1, 5 A02, 6 A02, 7 B02, 8 B02, 9 PGND2, 10 PGND3, 11 B01, 12 B01, 13 VM2, 14 VM3, 15 PWMB, 16 BIN2, 17 BIN1, 18 GND, 19 STBY, 20 VCC, 21 AIN1, 22 AIN2, 23 PWMA, 24 VM1

## TC4427
designator *
footprint SOP_8
pins: 1 NC, 2 INA, 3 GND, 4 INB, 5 OUTB, 6 VDD, 7 OUTA, 8 NC

## Test_Point
designator *
footprint Test_Point
pins: 1

## TL431A
designator U?
footprint SOT_23
pins: 1 C, 2 R, 3 A

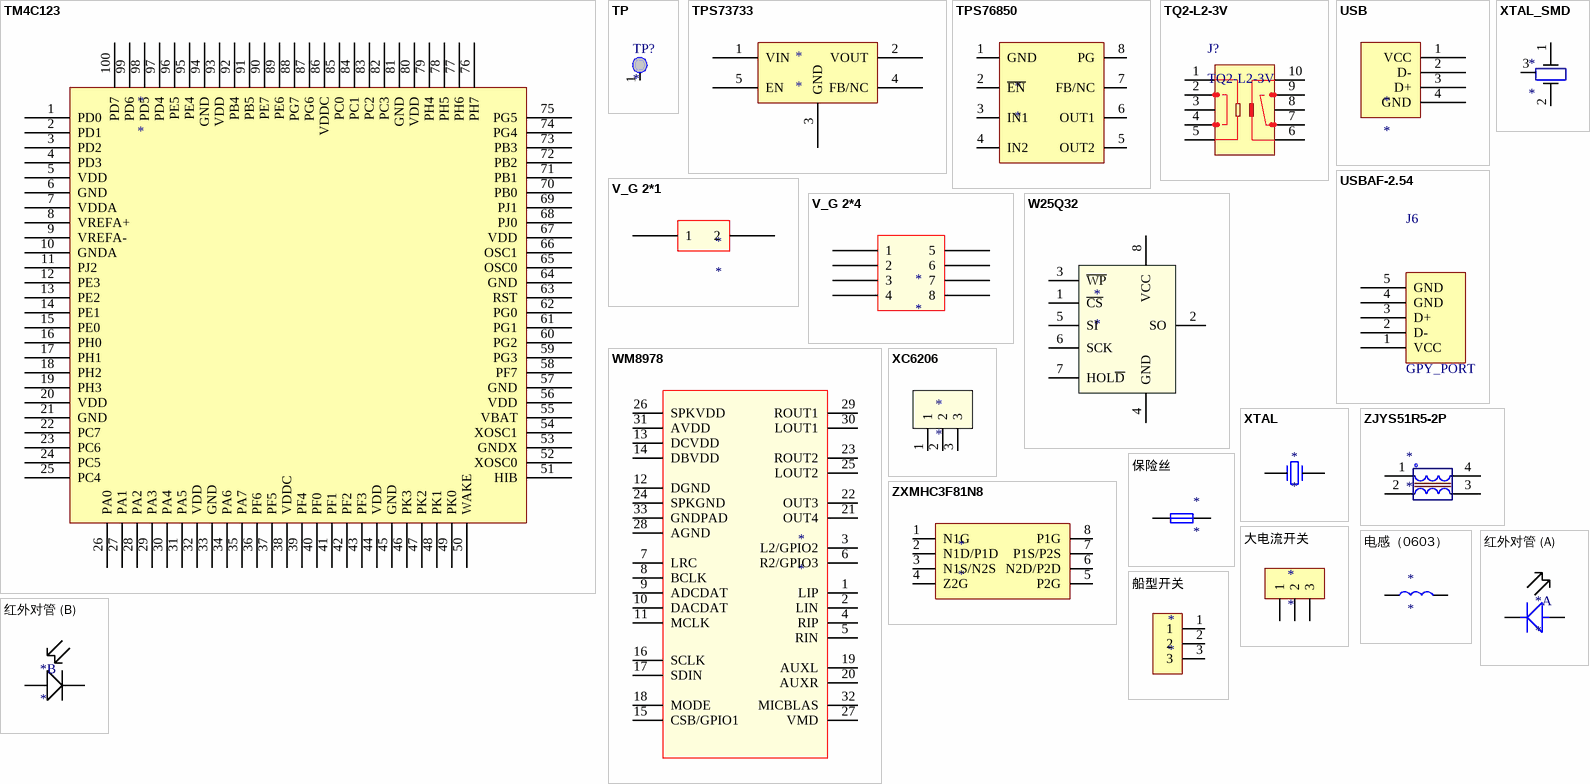
[diagram p4: symbols TM4C123 to 船型开关]

## TM4C123
designator *
footprint LQFP100_1
pins: 1 PD0, 2 PD1, 3 PD2, 4 PD3, 5 VDD, 6 GND, 7 VDDA, 8 VREFA+, 9 VREFA-, 10 GNDA, 11 PJ2, 12 PE3, 13 PE2, 14 PE1, 15 PE0, 16 PH0, 17 PH1, 18 PH2, 19 PH3, 20 VDD, 21 GND, 22 PC7, 23 PC6, 24 PC5, 25 PC4, 26 PA0, 27 PA1, 28 PA2, 29 PA3, 30 PA4, 31 PA5, 32 VDD, 33 GND, 34 PA6, 35 PA7, 36 PF6, 37 PF5, 38 VDDC, 39 PF4, 40 PF0, 41 PF1, 42 PF2, 43 PF3, 44 VDD, 45 GND, 46 PK3, 47 PK2, 48 PK1, 49 PK0, 50 WAKE, 51 HIB, 52 XOSC0, 53 GNDX, 54 XOSC1, 55 VBAT, 56 VDD, 57 GND, 58 PF7, 59 PG3, 60 PG2, 61 PG1, 62 PG0, 63 RST, 64 GND, 65 OSC0, 66 OSC1, 67 VDD, 68 PJ0, 69 PJ1, 70 PB0, 71 PB1, 72 PB2, 73 PB3, 74 PG4, 75 PG5, 76 PH7, 77 PH6, 78 PH5, 79 PH4, 80 VDD, 81 GND, 82 PC3, 83 PC2, 84 PC1, 85 PC0, 86 VDDC, 87 PG6, 88 PG7, 89 PE6, 90 PE7, 91 PB5, 92 PB4, 93 VDD, 94 GND, 95 PE4, 96 PE5, 97 PD4, 98 PD5, 99 PD6, 100 PD7

## TP
designator TP?
footprint TP
pins: 1

## TPS73733
designator *
pins: 1 VIN, 2 VOUT, 3 GND, 4 FB/NC, 5 EN

## TPS76850
designator *
footprint SOP_8
pins: 1 GND, 2 ~{EN}, 3 IN1, 4 IN2, 5 OUT2, 6 OUT1, 7 FB/NC, 8 PG

## TQ2-L2-3V
designator J?
footprint TQ2-L2-3V
pins: 1, 2, 3, 4, 5, 6, 7, 8, 9, 10

## USB
designator *
pins: 1 VCC, 2 D-, 3 D+, 4 GND

## USBAF-2.54
designator J6, comment GPY_PORT
footprint XH_2.53x4
footprint Model Name (Footprint not found)
footprint HAA200D-5
pins: 1 VCC, 2 D-, 3 D+, 4 GND, 5 GND

## V_G 2*1
designator *
footprint Header2 (2.54mm)
pins: 1, 2

## V_G 2*4
designator *
footprint Header 2*4 (2.54mm)
pins: 1, 2, 3, 4, 5, 6, 7, 8

## W25Q32
designator *
footprint SOIC127P600175-8N
footprint SOP_8
pins: 1 ~{CS}, 2 SO, 3 ~{WP}, 4 GND, 5 SI, 6 SCK, 7 HOL~{D}, 8 VCC

## WM8978
designator *
footprint QFN32_L
pins: 1 LIP, 2 LIN, 3 L2/GPIO2, 4 RIP, 5 RIN, 6 R2/GPIO3, 7 LRC, 8 BCLK, 9 ADCDAT, 10 DACDAT, 11 MCLK, 12 DGND, 13 DCVDD, 14 DBVDD, 15 CSB/GPIO1, 16 SCLK, 17 SDIN, 18 MODE, 19 AUXL, 20 AUXR, 21 OUT4, 22 OUT3, 23 ROUT2, 24 SPKGND, 25 LOUT2, 26 SPKVDD, 27 VMD, 28 AGND, 29 ROUT1, 30 LOUT1, 31 AVDD, 32 MICBLAS, 33 GNDPAD

## XC6206
designator *
footprint SOT_23
pins: 1, 2, 3

## XTAL
designator *
footprint XTAL_1
pins: 1, 2

## XTAL_SMD
designator *
footprint XTAL_SMD
pins: 1, 2, 3

## ZJYS51R5-2P
designator *
pins: 1 IN3, 2 IN4, 3 IN5, 4 IN6

## ZXMHC3F81N8
designator *
footprint SOP_8
pins: 1 N1G, 2 N1D/P1D, 3 N1S/N2S, 4 Z2G, 5 P2G, 6 N2D/P2D, 7 P1S/P2S, 8 P1G

## 保险丝
designator *
footprint 0805
pins: 1, 2

## 大电流开关
designator *
footprint 大电流开关_
pins: 1, 2, 3

## 电感（0603）
designator *
pins: 1, 2

## 红外对管
designator *
part A pins: 1, 2
part B pins: 3, 4

## 船型开关
designator *
footprint Header3 (2.54mm)
pins: 1, 2, 3